# EAGLE library part L6230Q (library patrick_custom)
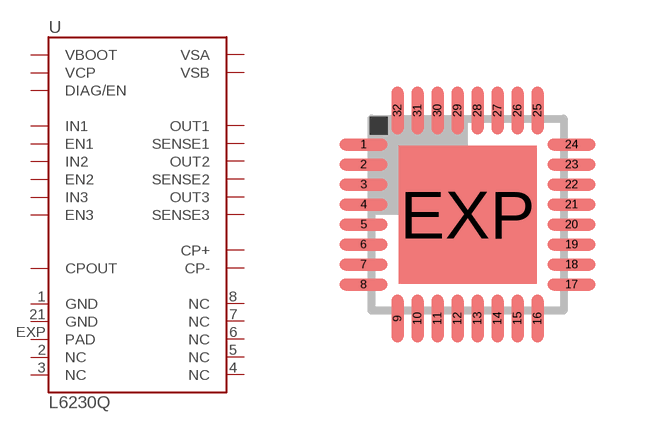
[diagram p8: symbol with the pads of VFQFPN-32; footprint VFQFPN-32]

Designator prefix U

## L6230Q  [VFQFPN-32]
1  GND
2  NC
3  NC
4  NC
5  NC
6  NC
7  NC
8  NC
9  DIAG/EN
11  CPOUT
12  SENSE3
13  IN2
14  EN2
15  CP-
16  EN3
17  VBOOT
19  OUT3
20  VSB
21  GND
22  VSA
23  OUT2
24  VCP
25  SENSE2
26  IN1
27  EN1
28  IN3
29  SENSE1
30  CP+
31  OUT1
EXP  PAD

## Footprint VFQFPN-32 (pad centres in mm)
smd 1.2 x 0.3: 1 -2.6,1.75; 2 -2.6,1.25; 3 -2.6,0.75; 4 -2.6,0.25; 5 -2.6,-0.25; 6 -2.6,-0.75; 7 -2.6,-1.25; 8 -2.6,-1.75; 17 2.6,-1.75; 18 2.6,-1.25; 19 2.6,-0.75; 20 2.6,-0.25; 21 2.6,0.25; 22 2.6,0.75; 23 2.6,1.25; 24 2.6,1.75
smd 0.3 x 1.2: 9 -1.75,-2.6; 10 -1.25,-2.6; 11 -0.75,-2.6; 12 -0.25,-2.6; 13 0.25,-2.6; 14 0.75,-2.6; 15 1.25,-2.6; 16 1.75,-2.6; 25 1.75,2.6; 26 1.25,2.6; 27 0.75,2.6; 28 0.25,2.6; 29 -0.25,2.6; 30 -0.75,2.6; 31 -1.25,2.6; 32 -1.75,2.6
smd 3.45 x 3.45: EXP 0,0